# Altium integrated library MT6816.IntLib: 1 symbol
Pins are listed as number, name and electrical type; pins without a type are passive.

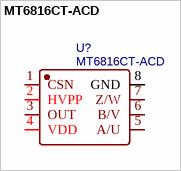
[diagram p0: symbol MT6816CT-ACD]

## MT6816CT-ACD
designator U?
BOM_Manufacturer: Magn Tek; Contributor: LCSC; BOM_Supplier: LCSC; BOM_Supplier Part: C879560; BOM_Manufacturer Part: MT6816CT-ACD; BOM_JLCPCB Part Class: Extended Part; spicePre: U; spiceSymbolName: MT6816CT-ACD
footprint SOP-8_L5.0-W4.0-P1.27-LS6.0-BL
pins: 1 CSN, 2 HVPP, 3 OUT, 4 VDD, 5 A/U, 6 B/V, 7 Z/W, 8 GND